# Altium integrated library Micron Memory Parallel NOR Flash.IntLib: 720 symbols (part 93 of 216)
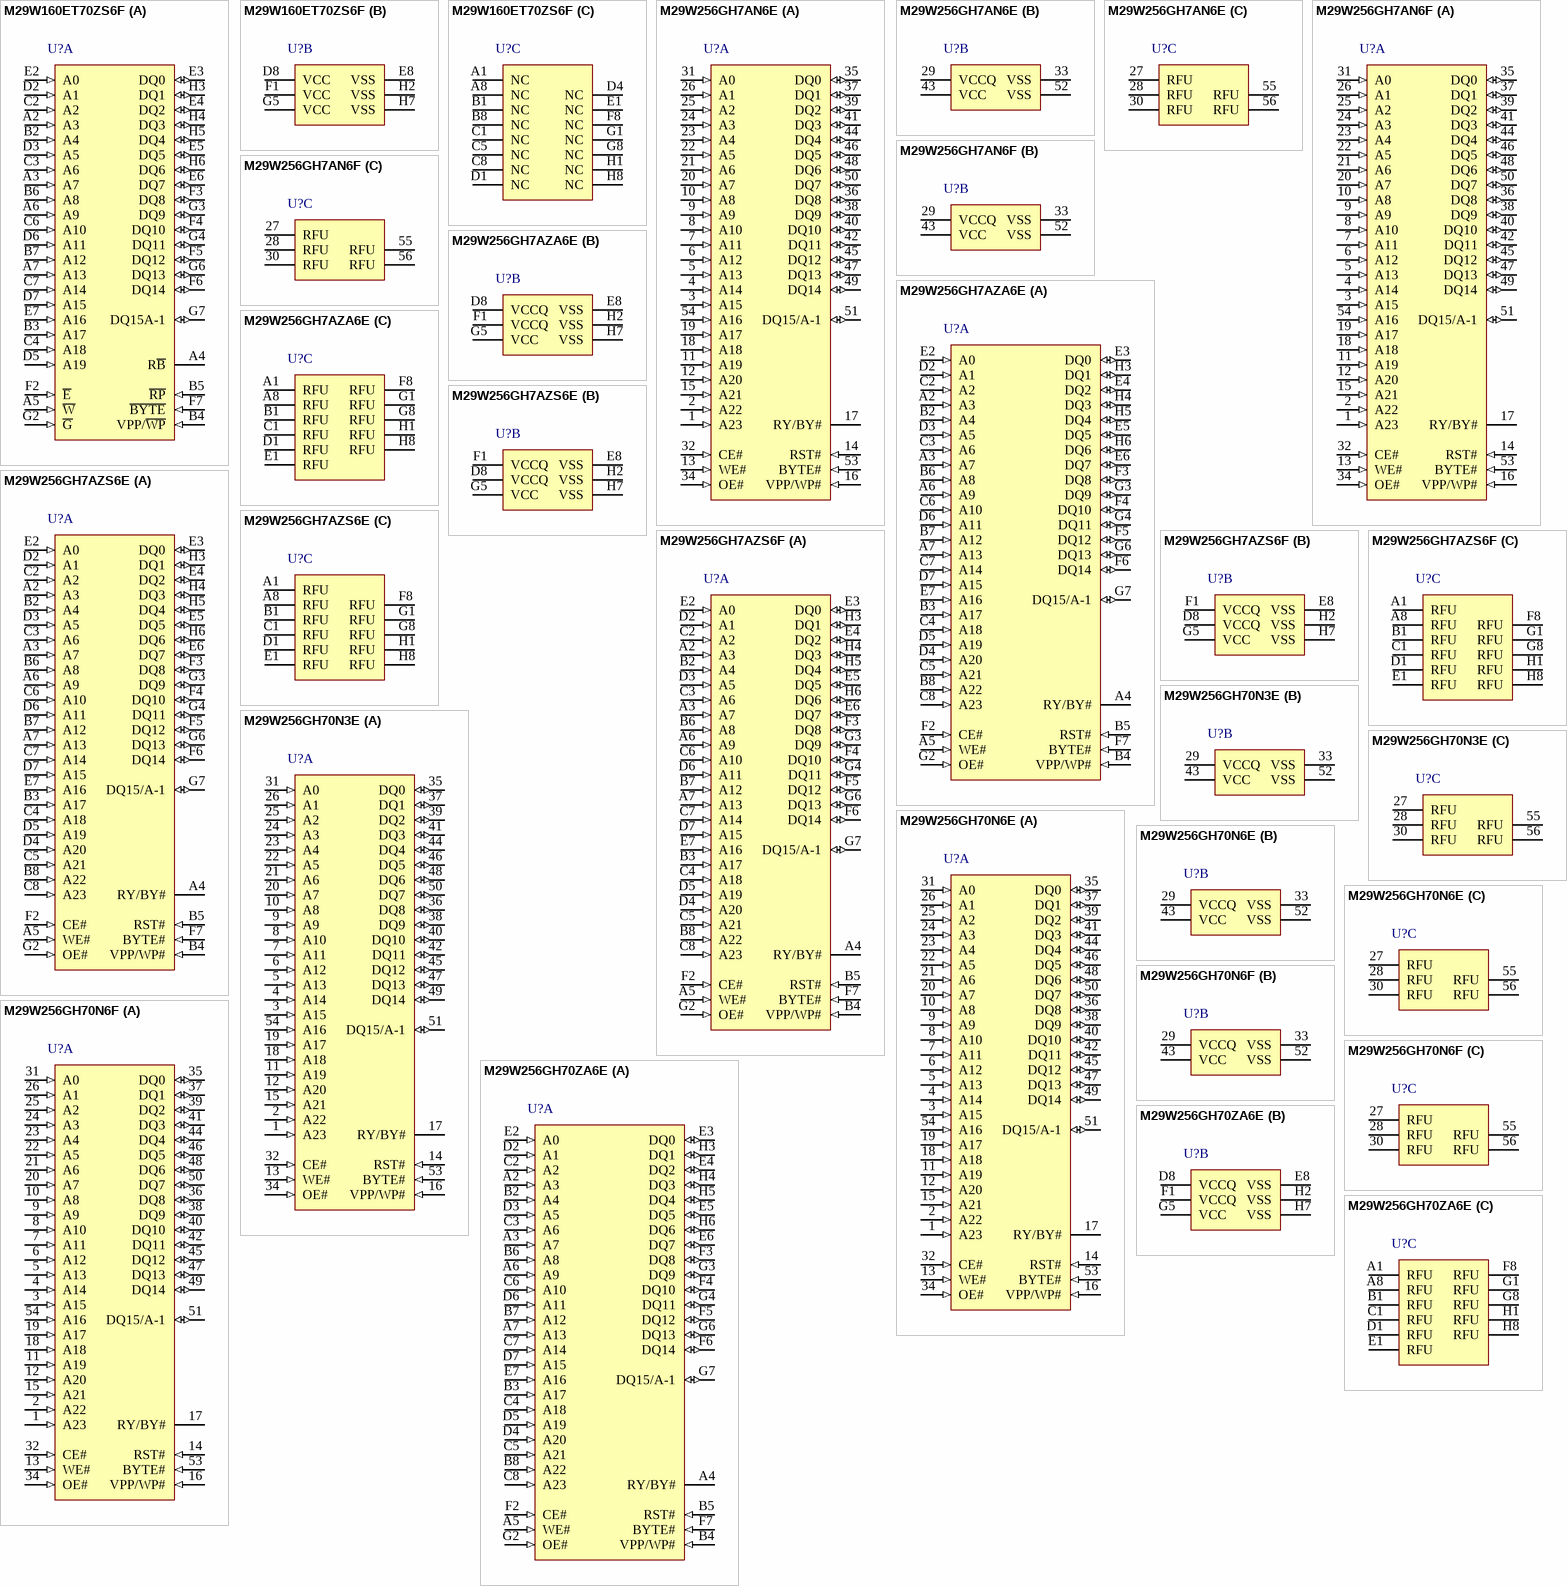
[diagram p136: symbols M29W160ET70ZS6F to M29W256GH70ZA6E]

## M29W160ET70ZS6F
designator U?
16 Mb (x8/x16) Parallel NOR Flash Memory, 70 ns, 2.7 to 3.6 V, 64-ball FBGA (ZS), Tape & Reel; Part Family: M29W; Manufacturer: Micron; PartNumber: M29W160ET70ZS6F; Density: 16Mb; Op Temp: -40C to +85C; Speed: 70ns; Voltage: 2.7V-3.6V; DatasheetVersion: Rev. 9.0; PackageVersion: Rev. 11; PackageReference: MICT-ZS-64; PackageDescription: 64-Ball FBGA, 11 X 13 mm, Pitch 1 mm; RoHS: Yes; Width: x8/x16; Mounting Technology: Surface Mount; ComponentLink1Description: Manufacturer URL; ComponentLink1URL: http://www.micron.com/; ComponentLink2Description: Datasheet; ComponentLink2URL: http://www.micron.com/~/media/Documents/Products/Data%20Sheet/NOR%20Flash/Parallel/P33/208034_P33_65nm_SBC_64M_128M_Discrete_DS.pdf; ComponentLink3Description: Package Specification; ComponentLink3URL: http://www.micron.com/~/media/Documents/Products/Data%20Sheet/NOR%20Flash/Parallel/P33/208034_P33_65nm_SBC_64M_128M_Discrete_DS.pdf
footprint MICT-ZS-64 (BGA, 64-Balls, Body 13x11mm, Pitch 1mm)
part A pins: A2 A3 (in) "The Address Input select the cells in the memory array to access during Bus Read operations. During Bus Write operations they control the commands sent to the Command Interface of the Program/Erase Controller.", A3 A7 (in) "The Address Input select the cells in the memory array to access during Bus Read operations. During Bus Write operations they control the commands sent to the Command Interface of the Program/Erase Controller.", A4 R~{B} (hiz) "The Ready/Busy pin is an open-drain output that can be used to identify when the device is performing a Program or Erase operation. During Program or Erase operations Ready/Busy is Low, VOL. Ready/Busy is high-impedance (See Datasheet)", A5 ~{W} (in) "The Write Enable, W\, controls the Bus Write operation of the memory’s Command Interface.", A6 A9 (in) "The Address Input select the cells in the memory array to access during Bus Read operations. During Bus Write operations they control the commands sent to the Command Interface of the Program/Erase Controller.", A7 A13 (in) "The Address Input select the cells in the memory array to access during Bus Read operations. During Bus Write operations they control the commands sent to the Command Interface of the Program/Erase Controller.", B2 A4 (in) "The Address Input select the cells in the memory array to access during Bus Read operations. During Bus Write operations they control the commands sent to the Command Interface of the Program/Erase Controller.", B3 A17 (in) "The Address Input select the cells in the memory array to access during Bus Read operations. During Bus Write operations they control the commands sent to the Command Interface of the Program/Erase Controller.", B4 VPP/~{WP} (in) "The VPP/Write Protect pin provides two functions. The VPP function allows the memory to use an external high voltage power supply to reduce the time required for Program operations. This is achieved by bypassing the unlock (See Datasheet)", B5 ~{RP} (in) "The Reset/Block Temporary Unprotect pin can be used to apply a Hardware Reset to the memory or to temporarily unprotect all Blocks that have been protected. Note that if VPP/W\P\ is at VIL, then the two outermost boot blocks (See Datasheet)", B6 A8 (in) "The Address Input select the cells in the memory array to access during Bus Read operations. During Bus Write operations they control the commands sent to the Command Interface of the Program/Erase Controller.", B7 A12 (in) "The Address Input select the cells in the memory array to access during Bus Read operations. During Bus Write operations they control the commands sent to the Command Interface of the Program/Erase Controller.", C2 A2 (in) "The Address Input select the cells in the memory array to access during Bus Read operations. During Bus Write operations they control the commands sent to the Command Interface of the Program/Erase Controller.", C3 A6 (in) "The Address Input select the cells in the memory array to access during Bus Read operations. During Bus Write operations they control the commands sent to the Command Interface of the Program/Erase Controller.", C4 A18 (in) "The Address Input select the cells in the memory array to access during Bus Read operations. During Bus Write operations they control the commands sent to the Command Interface of the Program/Erase Controller.", C6 A10 (in) "The Address Input select the cells in the memory array to access during Bus Read operations. During Bus Write operations they control the commands sent to the Command Interface of the Program/Erase Controller.", C7 A14 (in) "The Address Input select the cells in the memory array to access during Bus Read operations. During Bus Write operations they control the commands sent to the Command Interface of the Program/Erase Controller.", D2 A1 (in) "The Address Input select the cells in the memory array to access during Bus Read operations. During Bus Write operations they control the commands sent to the Command Interface of the Program/Erase Controller.", D3 A5 (in) "The Address Input select the cells in the memory array to access during Bus Read operations. During Bus Write operations they control the commands sent to the Command Interface of the Program/Erase Controller.", D5 A19 (in) "The Address Input select the cells in the memory array to access during Bus Read operations. During Bus Write operations they control the commands sent to the Command Interface of the Program/Erase Controller.", D6 A11 (in) "The Address Input select the cells in the memory array to access during Bus Read operations. During Bus Write operations they control the commands sent to the Command Interface of the Program/Erase Controller.", D7 A15 (in) "The Address Input select the cells in the memory array to access during Bus Read operations. During Bus Write operations they control the commands sent to the Command Interface of the Program/Erase Controller.", E2 A0 (in) "The Address Input select the cells in the memory array to access during Bus Read operations. During Bus Write operations they control the commands sent to the Command Interface of the Program/Erase Controller.", E3 DQ0 (io) "The Data Input/Output output the data stored at the selected address during a Bus Read operation. During Bus Write operations they represent the commands sent to the Command Interface of the Program/Erase Controller.", E4 DQ2 (io) "The Data Input/Output output the data stored at the selected address during a Bus Read operation. During Bus Write operations they represent the commands sent to the Command Interface of the Program/Erase Controller.", E5 DQ5 (io) "The Data Input/Output output the data stored at the selected address during a Bus Read operation. During Bus Write operations they represent the commands sent to the Command Interface of the Program/Erase Controller.", E6 DQ7 (io) "The Data Input/Output output the data stored at the selected address during a Bus Read operation. During Bus Write operations they represent the commands sent to the Command Interface of the Program/Erase Controller.", E7 A16 (in) "The Address Input select the cells in the memory array to access during Bus Read operations. During Bus Write operations they control the commands sent to the Command Interface of the Program/Erase Controller.", F2 ~{E} (in) "The Chip Enable, E\, activates the memory, allowing Bus Read and Bus Write operations to be performed. When Chip Enable is High, VIH, all other pins are ignored.", F3 DQ8 (io) "The Data Input/Output output the data stored at the selected address during a Bus Read operation when B\Y\T\E\ is High, VIH. When B\Y\T\E\ is Low, VIL, these pins are not used and are high impedance. During Bus Write (See Datasheet)", F4 DQ10 (io) "The Data Input/Output output the data stored at the selected address during a Bus Read operation when B\Y\T\E\ is High, VIH. When B\Y\T\E\ is Low, VIL, these pins are not used and are high impedance. During Bus Write (See Datasheet)", F5 DQ12 (io) "The Data Input/Output output the data stored at the selected address during a Bus Read operation when B\Y\T\E\ is High, VIH. When B\Y\T\E\ is Low, VIL, these pins are not used and are high impedance. During Bus Write (See Datasheet)", F6 DQ14 (io) "The Data Input/Output output the data stored at the selected address during a Bus Read operation when B\Y\T\E\ is High, VIH. When B\Y\T\E\ is Low, VIL, these pins are not used and are high impedance. During Bus Write (See Datasheet)", F7 ~{BYTE} (in) "The Byte/Word Organization Select pin is used to switch between the 8-bit and 16-bit Bus modes of the memory. When Byte/Word Organization Select is Low, VIL, the memory is in 8-bit mode, when it is High, VIH, the memory is (See Datasheet)", G2 ~{G} (in) "The Output Enable, G\, controls the Bus Read operation of the memory.", G3 DQ9 (io) "The Data Input/Output output the data stored at the selected address during a Bus Read operation when B\Y\T\E\ is High, VIH. When B\Y\T\E\ is Low, VIL, these pins are not used and are high impedance. During Bus Write (See Datasheet)", G4 DQ11 (io) "The Data Input/Output output the data stored at the selected address during a Bus Read operation when B\Y\T\E\ is High, VIH. When B\Y\T\E\ is Low, VIL, these pins are not used and are high impedance. During Bus Write (See Datasheet)", G6 DQ13 (io) "The Data Input/Output output the data stored at the selected address during a Bus Read operation when B\Y\T\E\ is High, VIH. When B\Y\T\E\ is Low, VIL, these pins are not used and are high impedance. During Bus Write (See Datasheet)", G7 DQ15A-1 (io) "When B\Y\T\E\ is High, VIH, this pin behaves as a Data Input/Output pin (as DQ8-DQ14). When B\Y\T\E\ is Low, VIL, this pin behaves as an address pin; DQ15A-1 Low will select the LSB of the Word on the other addresses, (See Datasheet)", H3 DQ1 (io) "The Data Input/Output output the data stored at the selected address during a Bus Read operation. During Bus Write operations they represent the commands sent to the Command Interface of the Program/Erase Controller.", H4 DQ3 (io) "The Data Input/Output output the data stored at the selected address during a Bus Read operation. During Bus Write operations they represent the commands sent to the Command Interface of the Program/Erase Controller.", H5 DQ4 (io) "The Data Input/Output outpt the data stored at the selected address during a Bus Read operation. During Bus Write operations they represent the commands sent to the Command Interface of the Program/Erase Controller.", H6 DQ6 (io) "The Data Input/Output output the data stored at the selected address during a Bus Read operation. During Bus Write operations they represent the commands sent to the Command Interface of the Program/Erase Controller."
part B pins: D8 VCC (power) "The VCC Supply Voltage supplies the power for all operations (Read, Program, Erase etc.).The Command Interface is disabled when the VCC Supply Voltage is less than the Lockout Voltage, VLKO. This prevents Bus Write (See Datasheet)", E8 VSS (power) "The VSS Ground is the reference for all voltage measurements. The two VSS pins of the device must be connected to the system ground.", F1 VCC (power) "The VCC Supply Voltage supplies the power for all operations (Read, Program, Erase etc.).The Command Interface is disabled when the VCC Supply Voltage is less than the Lockout Voltage, VLKO. This prevents Bus Write (See Datasheet)", G5 VCC (power) "The VCC Supply Voltage supplies the power for all operations (Read, Program, Erase etc.).The Command Interface is disabled when the VCC Supply Voltage is less than the Lockout Voltage, VLKO. This prevents Bus Write (See Datasheet)", H2 VSS (power) "The VSS Ground is the reference for all voltage measurements. The two VSS pins of the device must be connected to the system ground.", H7 VSS (power) "The VSS Ground is the reference for all voltage measurements. The two VSS pins of the device must be connected to the system ground."
part C pins: A1 NC "Not Connected Internally", A8 NC "Not Connected Internally", B1 NC "Not Connected Internally", B8 NC "Not Connected Internally", C1 NC "Not Connected Internally", C5 NC "Not Connected Internally", C8 NC "Not Connected Internally", D1 NC "Not Connected Internally", D4 NC "Not Connected Internally", E1 NC "Not Connected Internally", F8 NC "Not Connected Internally", G1 NC "Not Connected Internally", G8 NC "Not Connected Internally", H1 NC "Not Connected Internally", H8 NC "Not Connected Internally"

## M29W256GH7AN6E
designator U?
256 Mb (x8/x16) Automotive Parallel NOR Flash Memory, 70 ns, 2.7 to 3.6 V, 56-pin TSOP (N), Tray; Part Family: M29W; Manufacturer: Micron; PartNumber: M29W256GH7AN6E; Density: 256Mb; Op Temp: -40C to +85C; Speed: 70ns; Voltage: 2.7V-3.6V; DatasheetVersion: Rev. A; PackageVersion: Rev 3; PackageReference: MICT-N-56; PackageDescription: 56-Pin TSOP, 18.4 X 14 mm, Pitch 0.5 mm; RoHS: Yes; Width: x8/x16; Mounting Technology: Surface Mount; ComponentLink1Description: Manufacturer URL; ComponentLink1URL: http://www.micron.com/; ComponentLink2Description: Datasheet; ComponentLink2URL: http://www.micron.com/~/media/Documents/Products/Data%20Sheet/NOR%20Flash/Parallel/P33/208034_P33_65nm_SBC_64M_128M_Discrete_DS.pdf; ComponentLink3Description: Package Specification; ComponentLink3URL: http://www.micron.com/~/media/Documents/Products/Data%20Sheet/NOR%20Flash/Parallel/M29DW/M29DW128G.pdf
footprint MICT-N-56_N (SOP, 56-Leads, Body 18.4x14mm, Pitch 0.5mm, IPC Medium Density)
part A pins: 1 A23 (in) "Address: Selects the cells in the array to access during READ operations. During WRITE operations, they control the commands sent to the command interface of the program/erase controller.", 2 A22 (in) "Address: Selects the cells in the array to access during READ operations. During WRITE operations, they control the commands sent to the command interface of the program/erase controller.", 3 A15 (in) "Address: Selects the cells in the array to access during READ operations. During WRITE operations, they control the commands sent to the command interface of the program/erase controller.", 4 A14 (in) "Address: Selects the cells in the array to access during READ operations. During WRITE operations, they control the commands sent to the command interface of the program/erase controller.", 5 A13 (in) "Address: Selects the cells in the array to access during READ operations. During WRITE operations, they control the commands sent to the command interface of the program/erase controller.", 6 A12 (in) "Address: Selects the cells in the array to access during READ operations. During WRITE operations, they control the commands sent to the command interface of the program/erase controller.", 7 A11 (in) "Address: Selects the cells in the array to access during READ operations. During WRITE operations, they control the commands sent to the command interface of the program/erase controller.", 8 A10 (in) "Address: Selects the cells in the array to access during READ operations. During WRITE operations, they control the commands sent to the command interface of the program/erase controller.", 9 A9 (in) "Address: Selects the cells in the array to access during READ operations. During WRITE operations, they control the commands sent to the command interface of the program/erase controller.", 10 A8 (in) "Address: Selects the cells in the array to access during READ operations. During WRITE operations, they control the commands sent to the command interface of the program/erase controller.", 11 A19 (in) "Address: Selects the cells in the array to access during READ operations. During WRITE operations, they control the commands sent to the command interface of the program/erase controller.", 12 A20 (in) "Address: Selects the cells in the array to access during READ operations. During WRITE operations, they control the commands sent to the command interface of the program/erase controller.", 13 WE# (in) "Write enable: Controls the bus WRITE operation of the command interface.", 14 RST# (in) "Reset: Applies a hardware reset to the device, which is achieved by holding RST# LOW for atleasttPLPX. After RST# goes HIGH, the device is ready for READ and WRITE operations (aftertPHEL ortRHEL, whichever occurs last). See (See Datasheet)", 15 A21 (in) "Address: Selects the cells in the array to access during READ operations. During WRITE operations, they control the commands sent to the command interface of the program/erase controller.", 16 VPP/WP# (in) "VPP/Write Protect: Provides WRITE PROTECT function and VPPH function. These functionsprotect the lowest or highest block and enable the device to enter unlock bypass mode, respectively. (Refer to Hardware Protection and (See Datasheet)", 17 RY/BY# (hiz) "Ready busy: Open-drain output that can be used to identify when the device is performinga PROGRAM or ERASE operation. During PROGRAM or ERASE operations, RY/BY# is LOW,and is High-Z during read mode, auto select mode, and (See Datasheet)", 18 A18 (in) "Address: Selects the cells in the array to access during READ operations. During WRITE operations, they control the commands sent to the command interface of the program/erase controller.", 19 A17 (in) "Address: Selects the cells in the array to access during READ operations. During WRITE operations, they control the commands sent to the command interface of the program/erase controller.", 20 A7 (in) "Address: Selects the cells in the array to access during READ operations. During WRITE operations, they control the commands sent to the command interface of the program/erase controller.", 21 A6 (in) "Address: Selects the cells in the array to access during READ operations. During WRITE operations, they control the commands sent to the command interface of the program/erase controller.", 22 A5 (in) "Address: Selects the cells in the array to access during READ operations. During WRITE operations, they control the commands sent to the command interface of the program/erase controller.", 23 A4 (in) "Address: Selects the cells in the array to access during READ operations. During WRITE operations, they control the commands sent to the command interface of the program/erase controller.", 24 A3 (in) "Address: Selects the cells in the array to access during READ operations. During WRITE operations, they control the commands sent to the command interface of the program/erase controller.", 25 A2 (in) "Address: Selects the cells in the array to access during READ operations. During WRITE operations, they control the commands sent to the command interface of the program/erase controller.", 26 A1 (in) "Address: Selects the cells in the array to access during READ operations. During WRITE operations, they control the commands sent to the command interface of the program/erase controller.", 31 A0 (in) "Address: Selects the cells in the array to access during READ operations. During WRITE operations, they control the commands sent to the command interface of the program/erase controller.", 32 CE# (in) "Chip enable: Activates the device, enabling READ and WRITE operations to be performed.When CE# is HIGH, the device goes to standby and data outputs are at HIGH-Z.", 34 OE# (in) "Output enable: Controls the bus READ operation.", 35 DQ0 (io) "Data I/O: Output the data stored at the selected address during a READ operation. DuringWRITE operations, they represent the commands sent to the command interface of the internal state machine.", 36 DQ8 (io) "Data I/O: Output the data stored at the selected address during a READ operation whenBYTE# is HIGH. When BYTE# is LOW, these pins are not used and are High-Z. During WRITEoperations, these bits are not used. When reading the (See Datasheet)", 37 DQ1 (io) "Data I/O: Output the data stored at the selected address during a READ operation. DuringWRITE operations, they represent the commands sent to the command interface of the internal state machine.", 38 DQ9 (io) "Data I/O: Output the data stored at the selected address during a READ operation whenBYTE# is HIGH. When BYTE# is LOW, these pins are not used and are High-Z. During WRITEoperations, these bits are not used. When reading the (See Datasheet)", 39 DQ2 (io) "Data I/O: Output the data stored at the selected address during a READ operation. DuringWRITE operations, they represent the commands sent to the command interface of the internal state machine.", 40 DQ10 (io) "Data I/O: Output the data stored at the selected address during a READ operation whenBYTE# is HIGH. When BYTE# is LOW, these pins are not used and are High-Z. During WRITEoperations, these bits are not used. When reading the (See Datasheet)", 41 DQ3 (io) "Data I/O: Output the data stored at the selected address during a READ operation. DuringWRITE operations, they represent the commands sent to the command interface of the internal state machine.", 42 DQ11 (io) "Data I/O: Output the data stored at the selected address during a READ operation whenBYTE# is HIGH. When BYTE# is LOW, these pins are not used and are High-Z. During WRITEoperations, these bits are not used. When reading the (See Datasheet)", 44 DQ4 (io) "Data I/O: Output the data stored at the selected address during a READ operation. DuringWRITE operations, they represent the commands sent to the command interface of the internal state machine.", 45 DQ12 (io) "Data I/O: Output the data stored at the selected address during a READ operation whenBYTE# is HIGH. When BYTE# is LOW, these pins are not used and are High-Z. During WRITEoperations, these bits are not used. When reading the (See Datasheet)", 46 DQ5 (io) "Data I/O: Output the data stored at the selected address during a READ operation. DuringWRITE operations, they represent the commands sent to the command interface of the internal state machine.", 47 DQ13 (io) "Data I/O: Output the data stored at the selected address during a READ operation whenBYTE# is HIGH. When BYTE# is LOW, these pins are not used and are High-Z. During WRITEoperations, these bits are not used. When reading the (See Datasheet)", 48 DQ6 (io) "Data I/O: Output the data stored at the selected address during a READ operation. DuringWRITE operations, they represent the commands sent to the command interface of the internal state machine.", 49 DQ14 (io) "Data I/O: Output the data stored at the selected address during a READ operation whenBYTE# is HIGH. When BYTE# is LOW, these pins are not used and are High-Z. During WRITEoperations, these bits are not used. When reading the (See Datasheet)", 50 DQ7 (io) "Data I/O: Output the data stored at the selected address during a READ operation. DuringWRITE operations, they represent the commands sent to the command interface of the internal state machine.", 51 DQ15/A-1 (io) "Data I/O or address input: When the device operates in x16 bus mode, this pin behaves asdata I/O, together with DQ[14:8]. When the device operates in x8 bus mode, this pin behavesas the least significant bit of the address.(See Datasheet)", 53 BYTE# (in) "Byte/word organization select: Switches between x8 and x16 bus modes. When BYTE# isLOW, the device is in x8 mode; when HIGH, the device is in x16 mode.", 54 A16 (in) "Address: Selects the cells in the array to access during READ operations. During WRITE operations, they control the commands sent to the command interface of the program/erase controller."
part B pins: 29 VCCQ (power) "I/O supply voltage: Provides the power supply to the I/O pins and enables all outputs to bepowered independently from VCC.", 33 VSS (power) "Ground: All VSSpins must be connected to the system ground.", 43 VCC (power) "Supply voltage: Provides the power supply for READ, PROGRAM, and ERASE operations.The command interface is disabled when VCC <= VLKO. This prevents WRITE operations fromaccidentally damaging the data during power-up, (See Datasheet)", 52 VSS (power) "Ground: All VSS  pins must be connected to the system ground."
part C pins: 27 RFU "Reserved for future use: RFUs should be not connected.", 28 RFU "Reserved for future use: RFUs should be not connected.", 30 RFU "Reserved for future use: RFUs should be not connected.", 55 RFU "Reserved for future use: RFUs should be not connected.", 56 RFU "Reserved for future use: RFUs should be not connected."

## M29W256GH7AN6F
designator U?
256 Mb (x8/x16) Automotive Parallel NOR Flash Memory, 70 ns, 2.7 to 3.6 V, 56-pin TSOP (N), Tape & Reel; Part Family: M29W; Manufacturer: Micron; PartNumber: M29W256GH7AN6F; Density: 256Mb; Op Temp: -40C to +85C; Speed: 70ns; Voltage: 2.7V-3.6V; DatasheetVersion: Rev. A; PackageVersion: Rev 3; PackageReference: MICT-N-56; PackageDescription: 56-Pin TSOP, 18.4 X 14 mm, Pitch 0.5 mm; RoHS: Yes; Width: x8/x16; Mounting Technology: Surface Mount; ComponentLink1Description: Manufacturer URL; ComponentLink1URL: http://www.micron.com/; ComponentLink2Description: Datasheet; ComponentLink2URL: http://www.micron.com/~/media/Documents/Products/Data%20Sheet/NOR%20Flash/Parallel/P33/208034_P33_65nm_SBC_64M_128M_Discrete_DS.pdf; ComponentLink3Description: Package Specification; ComponentLink3URL: http://www.micron.com/~/media/Documents/Products/Data%20Sheet/NOR%20Flash/Parallel/M29DW/M29DW128G.pdf
footprint MICT-N-56_N (SOP, 56-Leads, Body 18.4x14mm, Pitch 0.5mm, IPC Medium Density)
part A pins: 1 A23 (in) "Address: Selects the cells in the array to access during READ operations. During WRITE operations, they control the commands sent to the command interface of the program/erase controller.", 2 A22 (in) "Address: Selects the cells in the array to access during READ operations. During WRITE operations, they control the commands sent to the command interface of the program/erase controller.", 3 A15 (in) "Address: Selects the cells in the array to access during READ operations. During WRITE operations, they control the commands sent to the command interface of the program/erase controller.", 4 A14 (in) "Address: Selects the cells in the array to access during READ operations. During WRITE operations, they control the commands sent to the command interface of the program/erase controller.", 5 A13 (in) "Address: Selects the cells in the array to access during READ operations. During WRITE operations, they control the commands sent to the command interface of the program/erase controller.", 6 A12 (in) "Address: Selects the cells in the array to access during READ operations. During WRITE operations, they control the commands sent to the command interface of the program/erase controller.", 7 A11 (in) "Address: Selects the cells in the array to access during READ operations. During WRITE operations, they control the commands sent to the command interface of the program/erase controller.", 8 A10 (in) "Address: Selects the cells in the array to access during READ operations. During WRITE operations, they control the commands sent to the command interface of the program/erase controller.", 9 A9 (in) "Address: Selects the cells in the array to access during READ operations. During WRITE operations, they control the commands sent to the command interface of the program/erase controller.", 10 A8 (in) "Address: Selects the cells in the array to access during READ operations. During WRITE operations, they control the commands sent to the command interface of the program/erase controller.", 11 A19 (in) "Address: Selects the cells in the array to access during READ operations. During WRITE operations, they control the commands sent to the command interface of the program/erase controller.", 12 A20 (in) "Address: Selects the cells in the array to access during READ operations. During WRITE operations, they control the commands sent to the command interface of the program/erase controller.", 13 WE# (in) "Write enable: Controls the bus WRITE operation of the command interface.", 14 RST# (in) "Reset: Applies a hardware reset to the device, which is achieved by holding RST# LOW for atleasttPLPX. After RST# goes HIGH, the device is ready for READ and WRITE operations (aftertPHEL ortRHEL, whichever occurs last). See (See Datasheet)", 15 A21 (in) "Address: Selects the cells in the array to access during READ operations. During WRITE operations, they control the commands sent to the command interface of the program/erase controller.", 16 VPP/WP# (in) "VPP/Write Protect: Provides WRITE PROTECT function and VPPH function. These functionsprotect the lowest or highest block and enable the device to enter unlock bypass mode, respectively. (Refer to Hardware Protection and (See Datasheet)", 17 RY/BY# (hiz) "Ready busy: Open-drain output that can be used to identify when the device is performinga PROGRAM or ERASE operation. During PROGRAM or ERASE operations, RY/BY# is LOW,and is High-Z during read mode, auto select mode, and (See Datasheet)", 18 A18 (in) "Address: Selects the cells in the array to access during READ operations. During WRITE operations, they control the commands sent to the command interface of the program/erase controller.", 19 A17 (in) "Address: Selects the cells in the array to access during READ operations. During WRITE operations, they control the commands sent to the command interface of the program/erase controller.", 20 A7 (in) "Address: Selects the cells in the array to access during READ operations. During WRITE operations, they control the commands sent to the command interface of the program/erase controller.", 21 A6 (in) "Address: Selects the cells in the array to access during READ operations. During WRITE operations, they control the commands sent to the command interface of the program/erase controller.", 22 A5 (in) "Address: Selects the cells in the array to access during READ operations. During WRITE operations, they control the commands sent to the command interface of the program/erase controller.", 23 A4 (in) "Address: Selects the cells in the array to access during READ operations. During WRITE operations, they control the commands sent to the command interface of the program/erase controller.", 24 A3 (in) "Address: Selects the cells in the array to access during READ operations. During WRITE operations, they control the commands sent to the command interface of the program/erase controller.", 25 A2 (in) "Address: Selects the cells in the array to access during READ operations. During WRITE operations, they control the commands sent to the command interface of the program/erase controller.", 26 A1 (in) "Address: Selects the cells in the array to access during READ operations. During WRITE operations, they control the commands sent to the command interface of the program/erase controller.", 31 A0 (in) "Address: Selects the cells in the array to access during READ operations. During WRITE operations, they control the commands sent to the command interface of the program/erase controller.", 32 CE# (in) "Chip enable: Activates the device, enabling READ and WRITE operations to be performed.When CE# is HIGH, the device goes to standby and data outputs are at HIGH-Z.", 34 OE# (in) "Output enable: Controls the bus READ operation.", 35 DQ0 (io) "Data I/O: Output the data stored at the selected address during a READ operation. DuringWRITE operations, they represent the commands sent to the command interface of the internal state machine.", 36 DQ8 (io) "Data I/O: Output the data stored at the selected address during a READ operation whenBYTE# is HIGH. When BYTE# is LOW, these pins are not used and are High-Z. During WRITEoperations, these bits are not used. When reading the (See Datasheet)", 37 DQ1 (io) "Data I/O: Output the data stored at the selected address during a READ operation. DuringWRITE operations, they represent the commands sent to the command interface of the internal state machine.", 38 DQ9 (io) "Data I/O: Output the data stored at the selected address during a READ operation whenBYTE# is HIGH. When BYTE# is LOW, these pins are not used and are High-Z. During WRITEoperations, these bits are not used. When reading the (See Datasheet)", 39 DQ2 (io) "Data I/O: Output the data stored at the selected address during a READ operation. DuringWRITE operations, they represent the commands sent to the command interface of the internal state machine.", 40 DQ10 (io) "Data I/O: Output the data stored at the selected address during a READ operation whenBYTE# is HIGH. When BYTE# is LOW, these pins are not used and are High-Z. During WRITEoperations, these bits are not used. When reading the (See Datasheet)", 41 DQ3 (io) "Data I/O: Output the data stored at the selected address during a READ operation. DuringWRITE operations, they represent the commands sent to the command interface of the internal state machine.", 42 DQ11 (io) "Data I/O: Output the data stored at the selected address during a READ operation whenBYTE# is HIGH. When BYTE# is LOW, these pins are not used and are High-Z. During WRITEoperations, these bits are not used. When reading the (See Datasheet)", 44 DQ4 (io) "Data I/O: Output the data stored at the selected address during a READ operation. DuringWRITE operations, they represent the commands sent to the command interface of the internal state machine.", 45 DQ12 (io) "Data I/O: Output the data stored at the selected address during a READ operation whenBYTE# is HIGH. When BYTE# is LOW, these pins are not used and are High-Z. During WRITEoperations, these bits are not used. When reading the (See Datasheet)", 46 DQ5 (io) "Data I/O: Output the data stored at the selected address during a READ operation. DuringWRITE operations, they represent the commands sent to the command interface of the internal state machine.", 47 DQ13 (io) "Data I/O: Output the data stored at the selected address during a READ operation whenBYTE# is HIGH. When BYTE# is LOW, these pins are not used and are High-Z. During WRITEoperations, these bits are not used. When reading the (See Datasheet)", 48 DQ6 (io) "Data I/O: Output the data stored at the selected address during a READ operation. DuringWRITE operations, they represent the commands sent to the command interface of the internal state machine.", 49 DQ14 (io) "Data I/O: Output the data stored at the selected address during a READ operation whenBYTE# is HIGH. When BYTE# is LOW, these pins are not used and are High-Z. During WRITEoperations, these bits are not used. When reading the (See Datasheet)", 50 DQ7 (io) "Data I/O: Output the data stored at the selected address during a READ operation. DuringWRITE operations, they represent the commands sent to the command interface of the internal state machine.", 51 DQ15/A-1 (io) "Data I/O or address input: When the device operates in x16 bus mode, this pin behaves asdata I/O, together with DQ[14:8]. When the device operates in x8 bus mode, this pin behavesas the least significant bit of the address.(See Datasheet)", 53 BYTE# (in) "Byte/word organization select: Switches between x8 and x16 bus modes. When BYTE# isLOW, the device is in x8 mode; when HIGH, the device is in x16 mode.", 54 A16 (in) "Address: Selects the cells in the array to access during READ operations. During WRITE operations, they control the commands sent to the command interface of the program/erase controller."
part B pins: 29 VCCQ (power) "I/O supply voltage: Provides the power supply to the I/O pins and enables all outputs to bepowered independently from VCC.", 33 VSS (power) "Ground: All VSSpins must be connected to the system ground.", 43 VCC (power) "Supply voltage: Provides the power supply for READ, PROGRAM, and ERASE operations.The command interface is disabled when VCC <= VLKO. This prevents WRITE operations fromaccidentally damaging the data during power-up, (See Datasheet)", 52 VSS (power) "Ground: All VSS  pins must be connected to the system ground."
part C pins: 27 RFU "Reserved for future use: RFUs should be not connected.", 28 RFU "Reserved for future use: RFUs should be not connected.", 30 RFU "Reserved for future use: RFUs should be not connected.", 55 RFU "Reserved for future use: RFUs should be not connected.", 56 RFU "Reserved for future use: RFUs should be not connected."

## M29W256GH7AZA6E
designator U?
256 Mb (x8/x16) Automotive Parallel NOR Flash Memory, 70 ns, 2.7 to 3.6 V, 64-ball TBGA (ZA), Tray; Part Family: M29W; Manufacturer: Micron; PartNumber: M29W256GH7AZA6E; Density: 256Mb; Op Temp: -40C to +85C; Speed: 70ns; Voltage: 2.7V-3.6V; DatasheetVersion: Rev. A; PackageVersion: Rev 3; PackageReference: MICT-ZA-64; PackageDescription: 64-Ball TBGA, 13 X 10 mm, Pitch 1 mm; RoHS: Yes; Width: x8/x16; Mounting Technology: Surface Mount; ComponentLink1Description: Manufacturer URL; ComponentLink1URL: http://www.micron.com/; ComponentLink2Description: Datasheet; ComponentLink2URL: http://www.micron.com/~/media/Documents/Products/Data%20Sheet/NOR%20Flash/Parallel/P33/208034_P33_65nm_SBC_64M_128M_Discrete_DS.pdf; ComponentLink3Description: Package Specification; ComponentLink3URL: http://www.micron.com/~/media/Documents/Products/Data%20Sheet/NOR%20Flash/Parallel/M29DW/M29DW127G.pdf
footprint MICT-ZA-64 (BGA, 64-Balls, Body 13x10mm, Pitch 1mm)
part A pins: A2 A3 (in) "Address: Selects the cells in the array to access during READ operations. During WRITE operations, they control the commands sent to the command interface of the program/erase controller.", A3 A7 (in) "Address: Selects the cells in the array to access during READ operations. During WRITE operations, they control the commands sent to the command interface of the program/erase controller.", A4 RY/BY# (hiz) "Ready busy: Open-drain output that can be used to identify when the device is performing a PROGRAM or ERASE operation. During PROGRAM or ERASE operations, RY/BY# is LOW, and is High-Z during read mode, auto select mode, and (See Datasheet)", A5 WE# (in) "Write enable: Controls the bus WRITE operation of the command interface.", A6 A9 (in) "Address: Selects the cells in the array to access during READ operations. During WRITE operations, they control the commands sent to the command interface of the program/erase controller.", A7 A13 (in) "Address: Selects the cells in the array to access during READ operations. During WRITE operations, they control the commands sent to the command interface of the program/erase controller.", B2 A4 (in) "Address: Selects the cells in the array to access during READ operations. During WRITE operations, they control the commands sent to the command interface of the program/erase controller.", B3 A17 (in) "Address: Selects the cells in the array to access during READ operations. During WRITE operations, they control the commands sent to the command interface of the program/erase controller.", B4 VPP/WP# (in) "VPP/Write Protect: Provides WRITE PROTECT function and VPPH function. These functions protect the lowest or highest block and enable the device to enter unlock bypass mode, respectively. (Refer to Hardware Protection and (See Datasheet)", B5 RST# (in) "Reset: Applies a hardware reset to the device, which is achieved by holding RST# LOW for at least tPLPX. After RST# goes HIGH, the device is ready for READ and WRITE operations (after tPHEL or tRHEL, whichever occurs last). (See Datasheet)", B6 A8 (in) "Address: Selects the cells in the array to access during READ operations. During WRITE operations, they control the commands sent to the command interface of the program/erase controller.", B7 A12 (in) "Address: Selects the cells in the array to access during READ operations. During WRITE operations, they control the commands sent to the command interface of the program/erase controller.", B8 A22 (in) "Address: Selects the cells in the array to access during READ operations. During WRITE operations, they control the commands sent to the command interface of the program/erase controller.", C2 A2 (in) "Address: Selects the cells in the array to access during READ operations. During WRITE operations, they control the commands sent to the command interface of the program/erase controller.", C3 A6 (in) "Address: Selects the cells in the array to access during READ operations. During WRITE operations, they control the commands sent to the command interface of the program/erase controller.", C4 A18 (in) "Address: Selects the cells in the array to access during READ operations. During WRITE operations, they control the commands sent to the command interface of the program/erase controller.", C5 A21 (in) "Address: Selects the cells in the array to access during READ operations. During WRITE operations, they control the commands sent to the command interface of the program/erase controller.", C6 A10 (in) "Address: Selects the cells in the array to access during READ operations. During WRITE operations, they control the commands sent to the command interface of the program/erase controller.", C7 A14 (in) "Address: Selects the cells in the array to access during READ operations. During WRITE operations, they control the commands sent to the command interface of the program/erase controller.", C8 A23 (in) "Address: Selects the cells in the array to access during READ operations. During WRITE operations, they control the commands sent to the command interface of the program/erase controller.", D2 A1 (in) "Address: Selects the cells in the array to access during READ operations. During WRITE operations, they control the commands sent to the command interface of the program/erase controller.", D3 A5 (in) "Address: Selects the cells in the array to access during READ operations. During WRITE operations, they control the commands sent to the command interface of the program/erase controller.", D4 A20 (in) "Address: Selects the cells in the array to access during READ operations. During WRITE operations, they control the commands sent to the command interface of the program/erase controller.", D5 A19 (in) "Address: Selects the cells in the array to access during READ operations. During WRITE operations, they control the commands sent to the command interface of the program/erase controller.", D6 A11 (in) "Address: Selects the cells in the array to access during READ operations. During WRITE operations, they control the commands sent to the command interface of the program/erase controller.", D7 A15 (in) "Address: Selects the cells in the array to access during READ operations. During WRITE operations, they control the commands sent to the command interface of the program/erase controller.", E2 A0 (in) "Address: Selects the cells in the array to access during READ operations. During WRITE operations, they control the commands sent to the command interface of the program/erase controller.", E3 DQ0 (io) "Data I/O: Outputs the data stored at the selected address during a READ operation. During WRITE operations, they represent the commands sent to the command interface of the internal state machine.", E4 DQ2 (io) "Data I/O: Outputs the data stored at the selected address during a READ operation. During WRITE operations, they represent the commands sent to the command interface of the internal state machine.", E5 DQ5 (io) "Data I/O: Outputs the data stored at the selected address during a READ operation. During WRITE operations, they represent the commands sent to the command interface of the internal state machine.", E6 DQ7 (io) "Data I/O: Outputs the data stored at the selected address during a READ operation. During WRITE operations, they represent the commands sent to the command interface of the internal state machine.", E7 A16 (in) "Address: Selects the cells in the array to access during READ operations. During WRITE operations, they control the commands sent to the command interface of the program/erase controller.", F2 CE# (in) "Chip enable: Activates the device, enabling READ and WRITE operations to be performed. When CE# is HIGH, the device goes to standby and data outputs are at HIGH-Z.", F3 DQ8 (io) "Data I/O: Outputs the data stored at the selected address during a READ operation when BYTE# is HIGH. When BYTE# is LOW, these pins are not used and are High-Z. During WRITE operations, these bits are not used. When reading (See Datasheet)", F4 DQ10 (io) "Data I/O: Outputs the data stored at the selected address during a READ operation when BYTE# is HIGH. When BYTE# is LOW, these pins are not used and are High-Z. During WRITE operations, these bits are not used. When reading (See Datasheet)", F5 DQ12 (io) "Data I/O: Outputs the data stored at the selected address during a READ operation when BYTE# is HIGH. When BYTE# is LOW, these pins are not used and are High-Z. During WRITE operations, these bits are not used. When reading (See Datasheet)", F6 DQ14 (io) "Data I/O: Outputs the data stored at the selected address during a READ operation when BYTE# is HIGH. When BYTE# is LOW, these pins are not used and are High-Z. During WRITE operations, these bits are not used. When reading (See Datasheet)", F7 BYTE# (in) "Byte/word organization select: Switches between x8 and x16 bus modes. When BYTE# is LOW, the device is in x8 mode; when HIGH, the device is in x16 mode.", G2 OE# (in) "Output enable: Controls the bus READ operation.", G3 DQ9 (io) "Data I/O: Outputs the data stored at the selected address during a READ operation when BYTE# is HIGH. When BYTE# is LOW, these pins are not used and are High-Z. During WRITE operations, these bits are not used. When reading (See Datasheet)", G4 DQ11 (io) "Data I/O: Outputs the data stored at the selected address during a READ operation when BYTE# is HIGH. When BYTE# is LOW, these pins are not used and are High-Z. During WRITE operations, these bits are not used. When reading (See Datasheet)", G6 DQ13 (io) "Data I/O: Outputs the data stored at the selected address during a READ operation when BYTE# is HIGH. When BYTE# is LOW, these pins are not used and are High-Z. During WRITE operations, these bits are not used. When reading (See Datasheet)", G7 DQ15/A-1 (io) "Data I/O or address input: When the device operates in x16 bus mode, this pin behaves as data I/O, together with DQ[14:8]. When the device operates in x8 bus mode, this pin behaves as the least significant bit of the address.(See Datasheet)", H3 DQ1 (io) "Data I/O: Outputs the data stored at the selected address during a READ operation. During WRITE operations, they represent the commands sent to the command interface of the internal state machine.", H4 DQ3 (io) "Data I/O: Outputs the data stored at the selected address during a READ operation. During WRITE operations, they represent the commands sent to the command interface of the internal state machine.", H5 DQ4 (io) "Data I/O: Outputs the data stored at the selected address during a READ operation. During WRITE operations, they represent the commands sent to the command interface of the internal state machine.", H6 DQ6 (io) "Data I/O: Outputs the data stored at the selected address during a READ operation. During WRITE operations, they represent the commands sent to the command interface of the internal state machine."
part B pins: D8 VCCQ (power) "I/O supply voltage: Provides the power supply to the I/O pins and enables all outputs to be powered independently from VCC.", E8 VSS (power) "Ground: All VSS pins must be connected to the system ground.", F1 VCCQ (power) "I/O supply voltage: Provides the power supply to the I/O pins and enables all outputs to be powered independently from VCC.", G5 VCC (power) "Supply voltage: Provides the power supply for READ, PROGRAM, and ERASE operations. The command interface is disabled when VCC <= VLKO. This prevents WRITE operations from accidentally damaging the data during power-up, (See Datasheet)", H2 VSS (power) "Ground: All VSS pins must be connected to the system ground.", H7 VSS (power) "Ground: All VSS pins must be connected to the system ground."
part C pins: A1 RFU "Reserved for future use: RFUs should be not connected.", A8 RFU "Reserved for future use: RFUs should be not connected.", B1 RFU "Reserved for future use: RFUs should be not connected.", C1 RFU "Reserved for future use: RFUs should be not connected.", D1 RFU "Reserved for future use: RFUs should be not connected.", E1 RFU "Reserved for future use: RFUs should be not connected.", F8 RFU "Reserved for future use: RFUs should be not connected.", G1 RFU "Reserved for future use: RFUs should be not connected.", G8 RFU "Reserved for future use: RFUs should be not connected.", H1 RFU "Reserved for future use: RFUs should be not connected.", H8 RFU "Reserved for future use: RFUs should be not connected."